# Altium footprint library SI3469DV.PcbLib: 3 footprints
Each footprint in its own frame and in the unit in brackets; x right, y up, seen from the top. Pads: shape width x height; smd on the part's side, far side on the other; paste and mask are expansions set on the pad; w line width, h text height; cw(c..) or ccw(c..) is an arc to the next point about the centre after c.
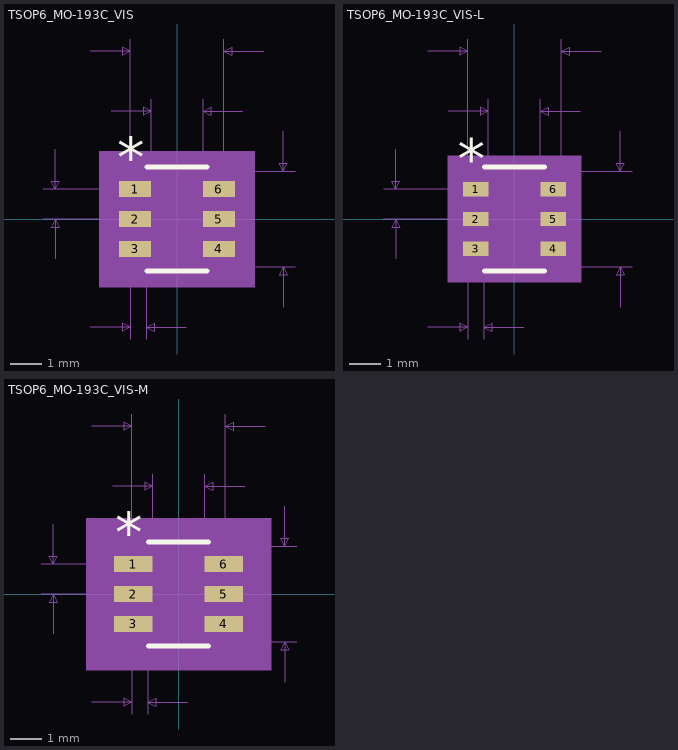
[diagram p0: the footprints below, top view; thin cyan lines are the x and y axes]

## TSOP6_MO-193C_VIS [mil]
pads (6):
  rect 40x20 smd paste+0 mask+0: 1(-52.5,37.4) 2(-52.5,0) 3(-52.5,-37.4) 4(52.5,-37.4) 5(52.5,0) 6(52.5,37.4)
Top Overlay:
  lines w6: -37.5,-65 37.5,-65 ; -37.5,65 37.5,65
  text "*" at -75,52.4 h50
Mechanical 5:
  region: 97.5,-85 -97.5,-85 -97.5,85 97.5,85
Mechanical 7:
  lines w1: -167.5,0 -52.5,0 ; -167.5,37.4 -52.5,37.4 ; -152.5,-50 -152.5,0 ; -152.5,87.4 -152.5,37.4 ; -108.5,-135 -58.5,-135 ; -108.5,210 -58.5,210 ; -82.5,135 -32.5,135 ; -58.5,-150 -58.5,0 -58.5,225 ; -38.5,-150 -38.5,0 ; -32.5,0 -32.5,150 ; 0,-60 147.5,-60 ; 0,60 147.5,60 ; 11.5,-135 -38.5,-135 ; 32.5,0 32.5,150 ; 58.5,0 58.5,225 ; 82.5,135 32.5,135 ; 108.5,210 58.5,210 ; 132.5,-110 132.5,-60 ; 132.5,110 132.5,60 ; -152.5,0 -157.5,-10 -147.5,-10 -152.5,0 ; -152.5,37.4 -157.5,47.4 -147.5,47.4 -152.5,37.4 ; -58.5,-135 -68.5,-130 -68.5,-140 -58.5,-135 ; -58.5,210 -68.5,215 -68.5,205 -58.5,210 ; -38.5,-135 -28.5,-130 -28.5,-140 -38.5,-135 ; -32.5,135 -42.5,140 -42.5,130 -32.5,135 ; 32.5,135 42.5,140 42.5,130 32.5,135 ; 58.5,210 68.5,215 68.5,205 58.5,210 ; 132.5,-60 127.5,-70 137.5,-70 132.5,-60 ; 132.5,60 127.5,70 137.5,70 132.5,60
  text "Default Padstyle: RX40Y20D0T" at -350,-260 h50
  text "Pin One Padstyle: RX40Y20D0T" at -350,-320 h50
  text "Alt 1 Padstyle: OX60Y90D30P" at -337.5,-500 h50
  text "Alt 2 Padstyle: OX90Y60D30P" at -337.5,-560 h50
  text "0.065in/1.651mm" at -93.75,155 h25
  text "0.117in/2.972mm" at -93.75,230 h25
  text "0.12in/3.048mm" at 152.5,-12.5 h25
  text "0.037in/0.95mm" at -347.5,6.2 h25
  text "0.02in/0.508mm" at -136,-180 h25
Mechanical 13:
  lines w0: -12,60 ccw(c0,60) 12,60
  lines w1: -58.5,-46.4 -58.5,-28.4 -32.5,-28.4 -32.5,-46.4 -58.5,-46.4 ; -58.5,-9 -58.5,9 -32.5,9 -32.5,-9 -58.5,-9 ; -58.5,28.4 -58.5,46.4 -32.5,46.4 -32.5,28.4 -58.5,28.4 ; -32.5,-60 32.5,-60 32.5,60 -32.5,60 -32.5,-60 ; 32.5,-46.4 32.5,-28.4 58.5,-28.4 58.5,-46.4 32.5,-46.4 ; 32.5,-9 32.5,9 58.5,9 58.5,-9 32.5,-9 ; 32.5,28.4 32.5,46.4 58.5,46.4 58.5,28.4 32.5,28.4
  text "*" at -30,7 h50
Mechanical 15:
  region: -42.5,-57.4 -82.5,-57.4 -82.5,57.4 -42.5,57.4 -42.5,70 42.5,70 42.5,57.4 82.5,57.4 82.5,-57.4 42.5,-57.4 42.5,-70 -42.5,-70
  lines w6: -82.5,-57.4 -82.5,57.4 -42.5,57.4 -42.5,70 42.5,70 42.5,57.4 82.5,57.4 82.5,-57.4 42.5,-57.4 42.5,-70 -42.5,-70 -42.5,-57.4 -82.5,-57.4
3D body: height 10, standoff 0, extent 0,0 10,10

## TSOP6_MO-193C_VIS-L [mil]
pads (6):
  rect 32x18 smd paste+0 mask+0: 1(-48.5,37.4) 2(-48.5,0) 3(-48.5,-37.4) 4(48.5,-37.4) 5(48.5,0) 6(48.5,37.4)
Top Overlay:
  lines w6: -37.5,-65 37.5,-65 ; -37.5,65 37.5,65
  text "*" at -71,50.4 h50
Mechanical 5:
  region: 83.5,-79 -83.5,-79 -83.5,79 83.5,79
Mechanical 7:
  lines w1: -163.5,0 -48.5,0 ; -163.5,37.4 -48.5,37.4 ; -148.5,-50 -148.5,0 ; -148.5,87.4 -148.5,37.4 ; -108.5,-135 -58.5,-135 ; -108.5,210 -58.5,210 ; -82.5,135 -32.5,135 ; -58.5,-150 -58.5,0 -58.5,225 ; -38.5,-150 -38.5,0 ; -32.5,0 -32.5,150 ; 0,-60 147.5,-60 ; 0,60 147.5,60 ; 11.5,-135 -38.5,-135 ; 32.5,0 32.5,150 ; 58.5,0 58.5,225 ; 82.5,135 32.5,135 ; 108.5,210 58.5,210 ; 132.5,-110 132.5,-60 ; 132.5,110 132.5,60 ; -148.5,0 -153.5,-10 -143.5,-10 -148.5,0 ; -148.5,37.4 -153.5,47.4 -143.5,47.4 -148.5,37.4 ; -58.5,-135 -68.5,-130 -68.5,-140 -58.5,-135 ; -58.5,210 -68.5,215 -68.5,205 -58.5,210 ; -38.5,-135 -28.5,-130 -28.5,-140 -38.5,-135 ; -32.5,135 -42.5,140 -42.5,130 -32.5,135 ; 32.5,135 42.5,140 42.5,130 32.5,135 ; 58.5,210 68.5,215 68.5,205 58.5,210 ; 132.5,-60 127.5,-70 137.5,-70 132.5,-60 ; 132.5,60 127.5,70 137.5,70 132.5,60
  text "Default Padstyle: RX32Y18D0T" at -350,-260 h50
  text "Pin One Padstyle: RX32Y18D0T" at -350,-320 h50
  text "Alt 1 Padstyle: OX60Y90D30P" at -337.5,-500 h50
  text "Alt 2 Padstyle: OX90Y60D30P" at -337.5,-560 h50
  text "0.065in/1.651mm" at -93.75,155 h25
  text "0.117in/2.972mm" at -93.75,230 h25
  text "0.12in/3.048mm" at 152.5,-12.5 h25
  text "0.037in/0.95mm" at -343.5,6.2 h25
  text "0.02in/0.508mm" at -136,-180 h25
Mechanical 13:
  lines w0: -12,60 ccw(c0,60) 12,60
  lines w1: -58.5,-46.4 -58.5,-28.4 -32.5,-28.4 -32.5,-46.4 -58.5,-46.4 ; -58.5,-9 -58.5,9 -32.5,9 -32.5,-9 -58.5,-9 ; -58.5,28.4 -58.5,46.4 -32.5,46.4 -32.5,28.4 -58.5,28.4 ; -32.5,-60 32.5,-60 32.5,60 -32.5,60 -32.5,-60 ; 32.5,-46.4 32.5,-28.4 58.5,-28.4 58.5,-46.4 32.5,-46.4 ; 32.5,-9 32.5,9 58.5,9 58.5,-9 32.5,-9 ; 32.5,28.4 32.5,46.4 58.5,46.4 58.5,28.4 32.5,28.4
  text "*" at -30,7 h50
Mechanical 15:
  region: -36.5,-50.4 -68.5,-50.4 -68.5,50.4 -36.5,50.4 -36.5,64 36.5,64 36.5,50.4 68.5,50.4 68.5,-50.4 36.5,-50.4 36.5,-64 -36.5,-64
  lines w6: -68.5,-50.4 -68.5,50.4 -36.5,50.4 -36.5,64 36.5,64 36.5,50.4 68.5,50.4 68.5,-50.4 36.5,-50.4 36.5,-64 -36.5,-64 -36.5,-50.4 -68.5,-50.4
3D body: height 10, standoff 0, extent 0,0 10,10

## TSOP6_MO-193C_VIS-M [mil]
pads (6):
  rect 48x20 smd paste+0 mask+0: 1(-56.5,37.4) 2(-56.5,0) 3(-56.5,-37.4) 4(56.5,-37.4) 5(56.5,0) 6(56.5,37.4)
Top Overlay:
  lines w6: -37.5,-65 37.5,-65 ; -37.5,65 37.5,65
  text "*" at -79,52.4 h50
Mechanical 5:
  region: 115.5,-95 -115.5,-95 -115.5,95 115.5,95
Mechanical 7:
  lines w1: -171.5,0 -56.5,0 ; -171.5,37.4 -56.5,37.4 ; -156.5,-50 -156.5,0 ; -156.5,87.4 -156.5,37.4 ; -108.5,-135 -58.5,-135 ; -108.5,210 -58.5,210 ; -82.5,135 -32.5,135 ; -58.5,-150 -58.5,0 -58.5,225 ; -38.5,-150 -38.5,0 ; -32.5,0 -32.5,150 ; 0,-60 147.5,-60 ; 0,60 147.5,60 ; 11.5,-135 -38.5,-135 ; 32.5,0 32.5,150 ; 58.5,0 58.5,225 ; 82.5,135 32.5,135 ; 108.5,210 58.5,210 ; 132.5,-110 132.5,-60 ; 132.5,110 132.5,60 ; -156.5,0 -161.5,-10 -151.5,-10 -156.5,0 ; -156.5,37.4 -161.5,47.4 -151.5,47.4 -156.5,37.4 ; -58.5,-135 -68.5,-130 -68.5,-140 -58.5,-135 ; -58.5,210 -68.5,215 -68.5,205 -58.5,210 ; -38.5,-135 -28.5,-130 -28.5,-140 -38.5,-135 ; -32.5,135 -42.5,140 -42.5,130 -32.5,135 ; 32.5,135 42.5,140 42.5,130 32.5,135 ; 58.5,210 68.5,215 68.5,205 58.5,210 ; 132.5,-60 127.5,-70 137.5,-70 132.5,-60 ; 132.5,60 127.5,70 137.5,70 132.5,60
  text "Default Padstyle: RX48Y20D0T" at -350,-260 h50
  text "Pin One Padstyle: RX48Y20D0T" at -350,-320 h50
  text "Alt 1 Padstyle: OX60Y90D30P" at -337.5,-500 h50
  text "Alt 2 Padstyle: OX90Y60D30P" at -337.5,-560 h50
  text "0.065in/1.651mm" at -93.75,155 h25
  text "0.117in/2.972mm" at -93.75,230 h25
  text "0.12in/3.048mm" at 152.5,-12.5 h25
  text "0.037in/0.95mm" at -351.5,6.2 h25
  text "0.02in/0.508mm" at -136,-180 h25
Mechanical 13:
  lines w0: -12,60 ccw(c0,60) 12,60
  lines w1: -58.5,-46.4 -58.5,-28.4 -32.5,-28.4 -32.5,-46.4 -58.5,-46.4 ; -58.5,-9 -58.5,9 -32.5,9 -32.5,-9 -58.5,-9 ; -58.5,28.4 -58.5,46.4 -32.5,46.4 -32.5,28.4 -58.5,28.4 ; -32.5,-60 32.5,-60 32.5,60 -32.5,60 -32.5,-60 ; 32.5,-46.4 32.5,-28.4 58.5,-28.4 58.5,-46.4 32.5,-46.4 ; 32.5,-9 32.5,9 58.5,9 58.5,-9 32.5,-9 ; 32.5,28.4 32.5,46.4 58.5,46.4 58.5,28.4 32.5,28.4
  text "*" at -30,7 h50
Mechanical 15:
  region: -52.5,-67.4 -100.5,-67.4 -100.5,67.4 -52.5,67.4 -52.5,80 52.5,80 52.5,67.4 100.5,67.4 100.5,-67.4 52.5,-67.4 52.5,-80 -52.5,-80
  lines w6: -100.5,-67.4 -100.5,67.4 -52.5,67.4 -52.5,80 52.5,80 52.5,67.4 100.5,67.4 100.5,-67.4 52.5,-67.4 52.5,-80 -52.5,-80 -52.5,-67.4 -100.5,-67.4
3D body: height 10, standoff 0, extent 0,0 10,10